# Altium footprint library DSON-10.PcbLib: 1 footprints
Each footprint in its own frame and in the unit in brackets; x right, y up, seen from the top. Pads: shape width x height; smd on the part's side, far side on the other; paste and mask are expansions set on the pad; w line width, h text height; cw(c..) or ccw(c..) is an arc to the next point about the centre after c.
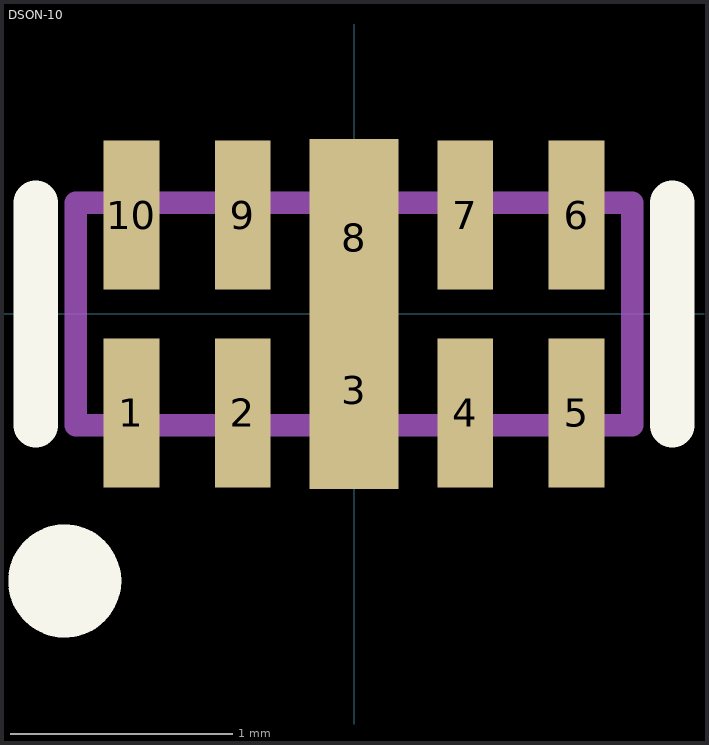
[diagram p0: the footprint, top view; thin cyan lines are the x and y axes]

## DSON-10 [mm]
pads (10):
  rect 0.25x0.67 smd mask+0.051: 1(-1,-0.445) 2(-0.5,-0.445) 4(0.5,-0.445) 5(1,-0.445) 6(1,0.445) 7(0.5,0.445) 9(-0.5,0.445) 10(-1,0.445)
  rect 0.4x0.889 smd mask+0.051: 3(0,-0.343) 8(0,0.343)
Top Overlay:
  circle w0.254: c-1.3,-1.2 r0.127
  lines w0.2: -1.43,-0.5 -1.43,0.5 ; 1.43,-0.5 1.43,0.5
Mechanical 13:
  lines w0.1: -1.25,-0.5 -1.25,0.5 1.25,0.5 1.25,-0.5 -1.25,-0.5